# Altium schematic symbol library DY2_DC5.SchLib: 1 symbol
Pins are listed as number, name and electrical type; pins without a type are passive.

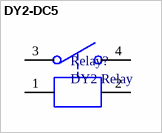
[diagram p0: symbol DY2-DC5]

## DY2-DC5
designator Relay?, comment DY2 Relay
Dong Yang Sub-miniature Relay; Manufacturer: Dong Yang
footprint Relay DY2-DC5
pins: 1, 2, 3, 4